# Altium integrated library RC0402FR-0725K5L.IntLib: 1 symbol
Pins are listed as number, name and electrical type; pins without a type are passive.

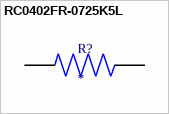
[diagram p0: symbol RC0402FR-0725K5L]

## RC0402FR-0725K5L
designator R?
RES SMD 25.5K OHM 1% 1/16W 0402; MF: {'manufacturer': u'YAGEO'}; MP: RC0402FR-0725K5L; Package: None; Price: None; Value: *; Availability: Unavailable
footprint RESC1005X40N
pins: 1, 2